# Altium footprint library RESC0301X013.PcbLib: 3 footprints
Each footprint in its own frame and in the unit in brackets; x right, y up, seen from the top. Pads: shape width x height; smd on the part's side, far side on the other; paste and mask are expansions set on the pad; w line width, h text height; cw(c..) or ccw(c..) is an arc to the next point about the centre after c.
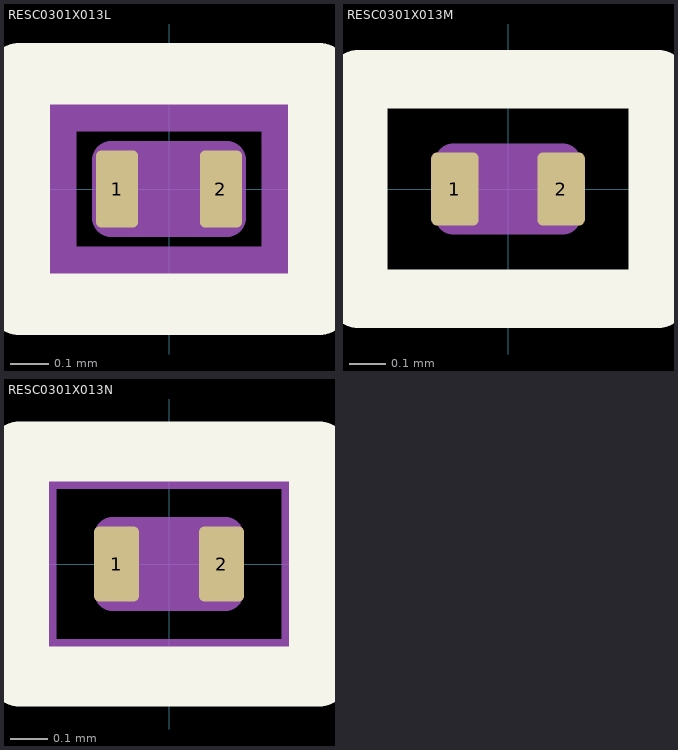
[diagram p0: the footprints below, top view; thin cyan lines are the x and y axes]

## RESC0301X013L [mm] "Resistors, Chip"
height 0.14
pads (2):
  rrect25% 0.11x0.2 smd: 1(-0.135,0) 2(0.135,0)
Top Overlay:
  lines w0.16: -0.39,-0.3 0.39,-0.3 0.39,0.3 -0.39,0.3 -0.39,-0.3
Top Component Center:
  lines w0.1: -0.04,0 0.04,0 ; 0,-0.04 0,0.04
Top Courtyard:
  lines w0.1: -0.29,-0.2 0.29,-0.2 0.29,0.2 -0.29,0.2 -0.29,-0.2
Top Assembly:
  lines w0.1: -0.15,-0.075 0.15,-0.075 0.15,0.075 -0.15,0.075 -0.15,-0.075
  text ".Designator" at 0,0 h1
3D body "RESC0301X013L.STEP": height 0.13, standoff 0, extent -0.15,-0.075 0.15,0.075

## RESC0301X013M [mm] "Resistors, Chip"
height 0.14
pads (2):
  rrect25% 0.13x0.2 smd: 1(-0.145,0) 2(0.145,0)
Top Overlay:
  lines w0.16: -0.41,-0.3 0.41,-0.3 0.41,0.3 -0.41,0.3 -0.41,-0.3
Top Component Center:
  lines w0.1: -0.04,0 0.04,0 ; 0,-0.04 0,0.04
Top Courtyard:
  lines w0.1: -0.41,-0.3 0.41,-0.3 0.41,0.3 -0.41,0.3 -0.41,-0.3
Top Assembly:
  lines w0.1: -0.15,-0.075 0.15,-0.075 0.15,0.075 -0.15,0.075 -0.15,-0.075
  text ".Designator" at 0,0 h1
3D body "RESC0301X013M.STEP": height 0.13, standoff 0, extent -0.15,-0.075 0.15,0.075

## RESC0301X013N [mm] "Resistors, Chip"
height 0.14
pads (2):
  rrect25% 0.12x0.2 smd: 1(-0.14,0) 2(0.14,0)
Top Overlay:
  lines w0.16: -0.4,-0.3 0.4,-0.3 0.4,0.3 -0.4,0.3 -0.4,-0.3
Top Component Center:
  lines w0.1: -0.04,0 0.04,0 ; 0,-0.04 0,0.04
Top Courtyard:
  lines w0.1: -0.35,-0.25 0.35,-0.25 0.35,0.25 -0.35,0.25 -0.35,-0.25
Top Assembly:
  lines w0.1: -0.15,-0.075 0.15,-0.075 0.15,0.075 -0.15,0.075 -0.15,-0.075
  text ".Designator" at 0,0 h1
3D body "RESC0301X013N.STEP": height 0.13, standoff 0, extent -0.15,-0.075 0.15,0.075